# EAGLE library part CHESSLIB_LTP-3784E (library ChessComputer)
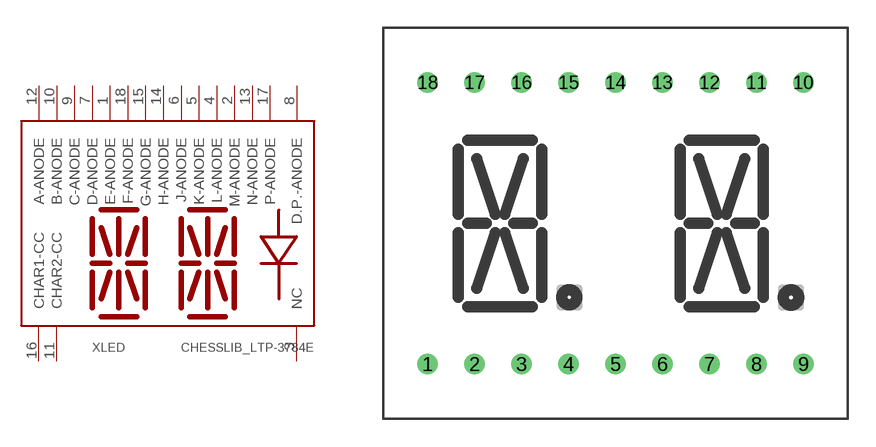
[diagram p0: symbol with the pads of CHESSLIB_TLP-3784E; footprint CHESSLIB_TLP-3784E]

Designator prefix XLED

## CHESSLIB_LTP-3784E  [CHESSLIB_TLP-3784E]
1  E-ANODE
2  M-ANODE
3  NC
4  L-ANODE
5  K-ANODE
6  J-ANODE
7  D-ANODE
8  D.P.-ANODE
9  C-ANODE
10  B-ANODE
11  CHAR2-CC
12  A-ANODE
13  N-ANODE
14  H-ANODE
15  G-ANODE
16  CHAR1-CC
17  P-ANODE
18  F-ANODE

## Footprint CHESSLIB_TLP-3784E (pad centres in mm)
drill 0.6: 1 -10.16,-7.62; 2 -7.62,-7.62; 3 -5.08,-7.62; 4 -2.54,-7.62; 5 0,-7.62; 6 2.54,-7.62; 7 5.08,-7.62; 8 7.62,-7.62; 9 10.16,-7.62; 10 10.16,7.62; 11 7.62,7.62; 12 5.08,7.62; 13 2.54,7.62; 14 0,7.62; 15 -2.54,7.62; 16 -5.08,7.62; 17 -7.62,7.62; 18 -10.16,7.62